# Altium schematic symbol library Fuses.SchLib: 9 symbols
Pins are listed as number, name and electrical type; pins without a type are passive.

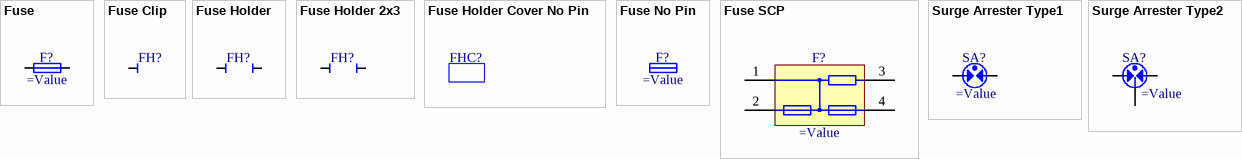
[diagram p0: symbols Fuse to Surge Arrester Type2]

## Fuse
designator F?
Fuse
pins: 1, 2

## Fuse Clip
designator FH?
Fuse Clip
pins: 1

## Fuse Holder
designator FH?
Fuse Holder
pins: 1, 2

## Fuse Holder 2x3
designator FH?
Fuse Holder 2x3
pins: 1, 2, 3, 4, 5, 6

## Fuse Holder Cover No Pin
designator FHC?
Fuse Holder Cover No Pin

## Fuse No Pin
designator F?
Fuse

## Fuse SCP
designator F?
Self Control Protector
pins: 1 COM, 2 F1, 3 Heater, 4 F2

## Surge Arrester Type1
designator SA?
Surge Arrester
pins: 1, 2

## Surge Arrester Type2
designator SA?
Surge Arrester
pins: 1, 2, 3